# Altium schematic symbol library GXHT11.SchLib: 1 symbol
Pins are listed as number, name and electrical type; pins without a type are passive.

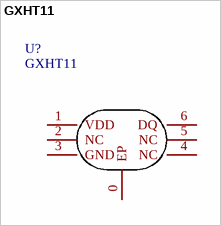
[diagram p0: symbol GXHT11]

## GXHT11
designator U?
footprint QFN6-EP(2*2*0.75) P=0.5
pins: 0 EP, 1 VDD, 2 NC, 3 GND, 4 NC, 5 NC, 6 DQ